# Altium schematic symbol library Schematic_Library.SchLib: 42 symbols
Pins are listed as number, name and electrical type; pins without a type are passive.

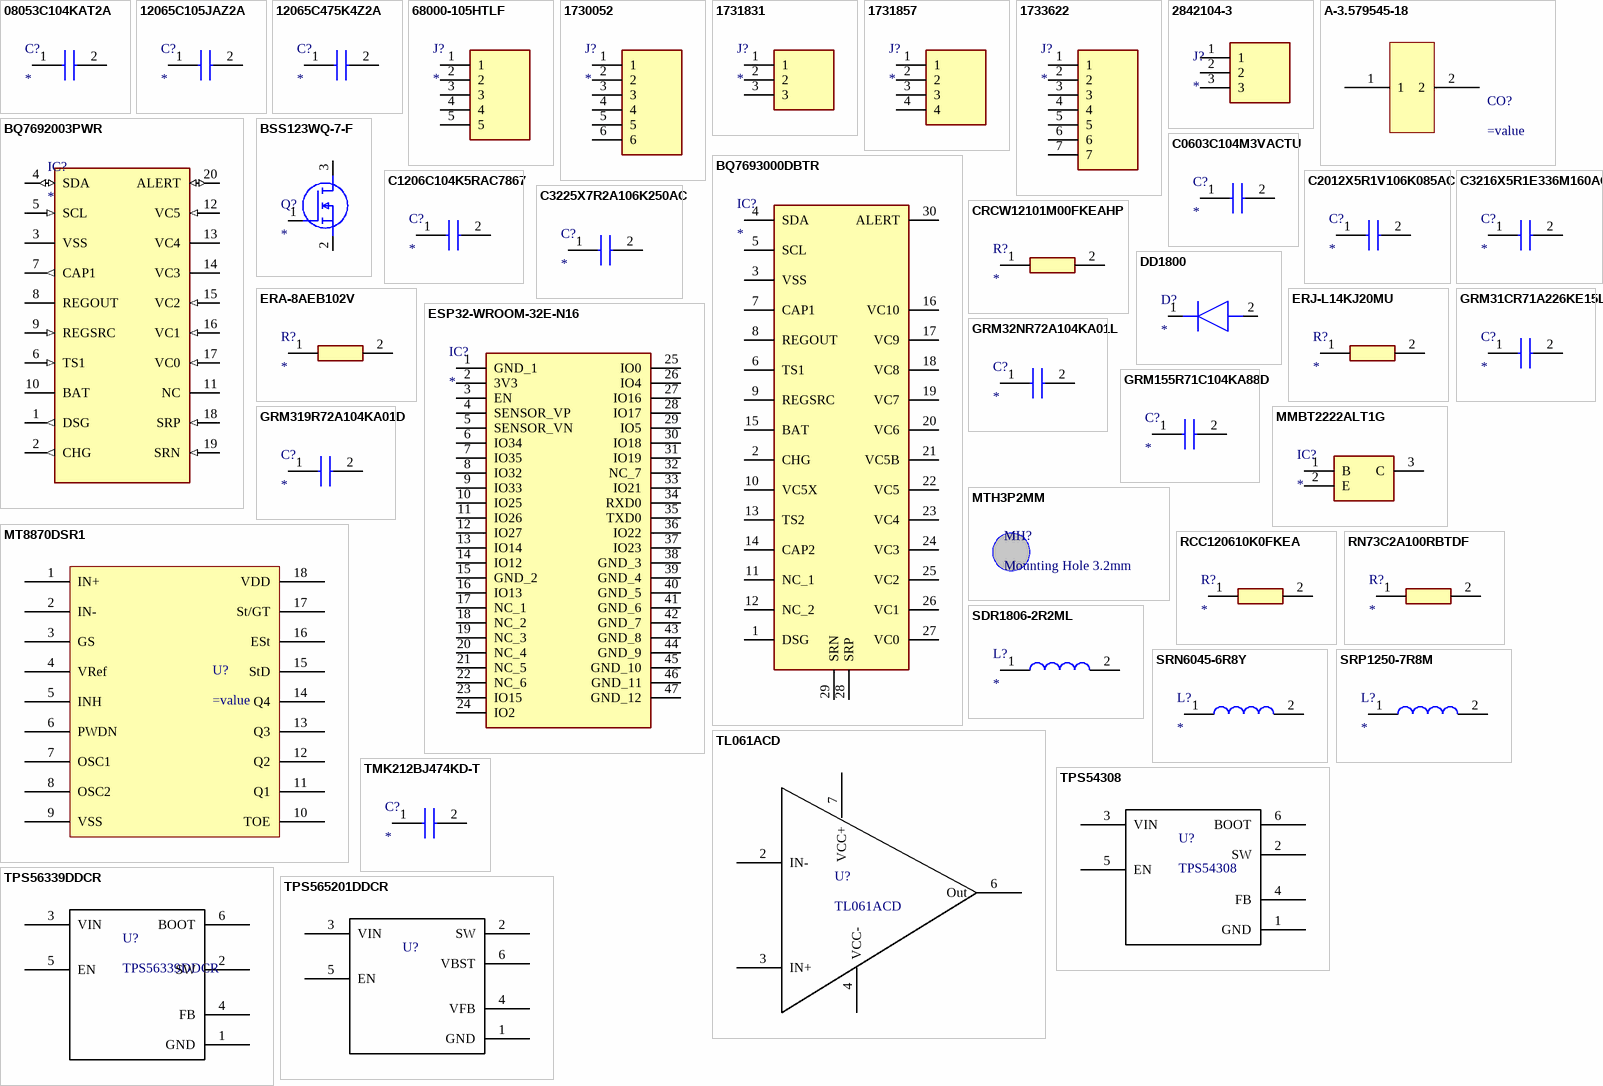
[diagram p0: symbols 08053C104KAT2A to TPS565201DDCR]

## 08053C104KAT2A
designator C?
Capacitor; Manufacturer_Name: Kyocera AVX; Manufacturer_Part_Number: 08053C104KAT2A; Datasheet Link: http://datasheets.avx.com/X7RDielectric.pdf; Height: 0.94mm; Mouser Part Number: 581-08053C104K; Mouser Price/Stock: https://www.mouser.co.uk/ProductDetail/KYOCERA-AVX/08053C104KAT2A?qs=EihRZLdKnF2GcTBzDkE%2FiQ%3D%3D; Arrow Part Number: 08053C104KAT2A; Arrow Price/Stock: https://www.arrow.com/en/products/08053c104kat2a/avx?region=nac
footprint 08053C104KAT2A
pins: 1, 2

## 12065C105JAZ2A
designator C?
Capacitor; Manufacturer_Name: Kyocera AVX; Manufacturer_Part_Number: 12065C105JAZ2A; Datasheet Link: http://www.farnell.com/datasheets/2237835.pdf; Height: 1.78mm; Mouser Part Number: 581-12065C105JAZ2A; Mouser Price/Stock: https://www.mouser.com/Search/Refine.aspx?Keyword=581-12065C105JAZ2A; Arrow Part Number: 12065C105JAZ2A; Arrow Price/Stock: https://www.arrow.com/en/products/12065c105jaz2a/avx
footprint 12065C105JAZ2A
pins: 1, 2

## 12065C475K4Z2A
designator C?
Capacitor; Manufacturer_Name: Kyocera AVX; Manufacturer_Part_Number: 12065C475K4Z2A; Datasheet Link: https://spicat.kyocera-avx.com/product/mlcc/chartview/12065C475K4Z2A/DataSheet/X7R; Height: 1.78mm; Mouser Part Number: 581-12065C475K4Z2A; Mouser Price/Stock: https://www.mouser.co.uk/ProductDetail/KYOCERA-AVX/12065C475K4Z2A?qs=AQlKX63v8RvvrmQFAjsYkg%3D%3D
footprint 12065C475K4Z2A
pins: 1, 2

## 68000-105HTLF
designator J?
Connector; Manufacturer_Name: Amphenol Communications Solutions; Manufacturer_Part_Number: 68000-105HTLF; Datasheet Link: https://cdn.amphenol-cs.com/media/wysiwyg/files/drawing/68000.pdf; Height: 8.58mm; Mouser Part Number: 649-68000-105HTLF; Mouser Price/Stock: https://www.mouser.co.uk/ProductDetail/Amphenol-FCI/68000-105HTLF?qs=w%2Fv1CP2dgqrYgNyQVoiqDw%3D%3D; Arrow Part Number: 68000-105HTLF; Arrow Price/Stock: https://www.arrow.com/en/products/68000-105htlf/amphenol-fci
footprint 68000-105HTLF
pins: 1, 2, 3, 4, 5

## 1730052
designator J?
Connector; Manufacturer_Name: Phoenix Contact; Manufacturer_Part_Number: 1730052; Datasheet Link: http://www.phoenixcontact.com/de/produkte/1730052/pdf; Height: 13.8mm; Mouser Part Number: 651-1730052; Mouser Price/Stock: https://www.mouser.co.uk/ProductDetail/Phoenix-Contact/1730052?qs=5SfROSHwb7BgX0aXGqhyYw%3D%3D; Arrow Part Number: 1730052; Arrow Price/Stock: https://www.arrow.com/en/products/1730052/phoenix-contact
footprint 1730052
pins: 1, 2, 3, 4, 5, 6

## 1731831
designator J?
Connector; Manufacturer_Name: Phoenix Contact; Manufacturer_Part_Number: 1731831; Datasheet Link: https://datasheet.datasheetarchive.com/originals/distributors/SFDatasheet-2/sf-00050906.pdf; Height: 19.1mm; Mouser Part Number: 651-1731831; Mouser Price/Stock: https://www.mouser.co.uk/ProductDetail/Phoenix-Contact/1731831?qs=o3rrLWFGhRnv%252Ba3%2FC%252B10UQ%3D%3D; Arrow Part Number: 1731831; Arrow Price/Stock: https://www.arrow.com/en/products/1731831/phoenix-contact?utm_currency=USD&region=nac
footprint 1731831
pins: 1, 2, 3

## 1731857
designator J?
Connector; Manufacturer_Name: Phoenix Contact; Manufacturer_Part_Number: 1731857; Datasheet Link: http://www.phoenixcontact.com/de/produkte/1731857/pdf; Height: 19.27mm; Mouser Part Number: 651-1731857; Mouser Price/Stock: https://www.mouser.co.uk/ProductDetail/Phoenix-Contact/1731857?qs=o3rrLWFGhRkCt0JTTi%2FfYg%3D%3D
footprint 1731857
pins: 1, 2, 3, 4

## 1733622
designator J?
Connector; Manufacturer_Name: Phoenix Contact; Manufacturer_Part_Number: 1733622; Datasheet Link: http://www.phoenixcontact.com/de/produkte/1733622/pdf; Height: 15.45mm; Mouser Part Number: 651-1733622; Mouser Price/Stock: https://www.mouser.co.uk/ProductDetail/Phoenix-Contact/1733622?qs=bbdZqDPQhEWeMZBa6Pj3gw%3D%3D; Arrow Part Number: 1733622; Arrow Price/Stock: https://www.arrow.com/en/products/1733622/phoenix-contact?region=nac
footprint 1733622
pins: 1, 2, 3, 4, 5, 6, 7

## 2842104-3
designator J?
Connector; Manufacturer_Name: TE Connectivity; Manufacturer_Part_Number: 2842104-3; Datasheet Link: https://www.te.com/commerce/DocumentDelivery/DDEController?Action=showdoc&DocId=Customer+Drawing%7F2842104%7FA%7Fpdf%7FEnglish%7FENG_CD_2842104_A.pdf%7F2842104-6; Height: 7mm; Mouser Part Number: 571-2842104-3; Mouser Price/Stock: https://www.mouser.co.uk/ProductDetail/TE-Connectivity/2842104-3?qs=Cb2nCFKsA8r9cMKaqp3U1w%3D%3D; Arrow Part Number: 2842104-3; Arrow Price/Stock: https://www.arrow.com/en/products/2842104-3/te-connectivity?region=nac
footprint 28421043
pins: 1, 2, 3

## A-3.579545-18
designator CO?
footprint A-3.579545-18
pins: 1, 2

## BQ7692003PWR
designator IC?
Integrated Circuit; Manufacturer_Name: Texas Instruments; Manufacturer_Part_Number: BQ7692003PWR; Datasheet Link: http://www.ti.com/lit/gpn/bq76920; Height: 1.2mm; Mouser Part Number: 595-BQ7692003PWR; Mouser Price/Stock: https://www.mouser.co.uk/ProductDetail/Texas-Instruments/BQ7692003PWR?qs=%2Fd%252BFzHvH4c1ZYX6sbOSR8w%3D%3D; Arrow Part Number: BQ7692003PWR; Arrow Price/Stock: https://www.arrow.com/en/products/bq7692003pwr/texas-instruments?utm_currency=USD&region=nac
footprint BQ7692003PWR
pins: 1 DSG (out), 2 CHG (out), 3 VSS, 4 SDA (io), 5 SCL (in), 6 TS1 (in), 7 CAP1 (out), 8 REGOUT (power), 9 REGSRC (in), 10 BAT (power), 11 NC, 12 VC5 (in), 13 VC4, 14 VC3, 15 VC2 (in), 16 VC1 (in), 17 VC0 (in), 18 SRP (in), 19 SRN (in), 20 ALERT (io)

## BQ7693000DBTR
designator IC?
Integrated Circuit; Manufacturer_Name: Texas Instruments; Manufacturer_Part_Number: BQ7693000DBTR; Datasheet Link: https://www.arrow.com/en/products/bq7693000dbtr/texas-instruments; Height: 1.2mm; Mouser Part Number: 595-BQ7693000DBTR; Mouser Price/Stock: https://www.mouser.co.uk/ProductDetail/Texas-Instruments/BQ7693000DBTR?qs=%2Fd%252BFzHvH4c0SMleFewu4ww%3D%3D; Arrow Part Number: BQ7693000DBTR; Arrow Price/Stock: https://www.arrow.com/en/products/bq7693000dbtr/texas-instruments?region=europe
footprint BQ7693000DBTR
pins: 1 DSG, 2 CHG, 3 VSS, 4 SDA, 5 SCL, 6 TS1, 7 CAP1, 8 REGOUT, 9 REGSRC, 10 VC5X, 11 NC_1, 12 NC_2, 13 TS2, 14 CAP2, 15 BAT, 16 VC10, 17 VC9, 18 VC8, 19 VC7, 20 VC6, 21 VC5B, 22 VC5, 23 VC4, 24 VC3, 25 VC2, 26 VC1, 27 VC0, 28 SRP, 29 SRN, 30 ALERT

## BSS123WQ-7-F
designator Q?
MOSFET (N-Channel); Manufacturer_Name: Diodes Incorporated; Manufacturer_Part_Number: BSS123WQ-7-F; Datasheet Link: https://www.diodes.com//assets/Datasheets/BSS123WQ.pdf; Height: 1.1mm; Mouser Part Number: 621-BSS123WQ-7-F; Mouser Price/Stock: https://www.mouser.co.uk/ProductDetail/Diodes-Incorporated/BSS123WQ-7-F?qs=GSeC4G%252BEqEX8zUQUKMJ7Eg%3D%3D; Arrow Part Number: BSS123WQ-7-F; Arrow Price/Stock: https://www.arrow.com/en/products/bss123wq-7-f/diodes-incorporated?utm_currency=USD&region=nac
footprint SOT65P210X110-3N
pins: 1 G, 2 S, 3 D

## C0603C104M3VACTU
designator C?
Capacitor; Manufacturer_Name: KEMET; Manufacturer_Part_Number: C0603C104M3VACTU; Datasheet Link: https://content.kemet.com/datasheets/KEM_C1005_Y5V_SMD.pdf; Height: 0.87mm; Mouser Part Number: 80-C0603C104M3V; Mouser Price/Stock: https://www.mouser.co.uk/ProductDetail/KEMET/C0603C104M3VACTU?qs=jZ42y6hXG8l3LKJr7CVpKA%3D%3D; Arrow Part Number: C0603C104M3VACTU; Arrow Price/Stock: https://www.arrow.com/en/products/c0603c104m3vactu/kemet-corporation?region=nac
footprint C0603C104M3VACTU
pins: 1, 2

## C1206C104K5RAC7867
designator C?
Capacitor; Manufacturer_Name: KEMET; Manufacturer_Part_Number: C1206C104K5RAC7867; Datasheet Link: https://content.kemet.com/datasheets/KEM_C1002_X7R_SMD.pdf; Height: 1.1mm; Mouser Part Number: 80-C1206104K5RAC7867; Mouser Price/Stock: https://www.mouser.co.uk/ProductDetail/KEMET/C1206C104K5RAC7867?qs=r%2FVmNO8Tjq5MvP%2FjoJQjcw%3D%3D; Arrow Part Number: C1206C104K5RAC7867; Arrow Price/Stock: https://www.arrow.com/en/products/c1206c104k5rac7867/kemet-corporation
footprint C1206C104K5RAC7867
pins: 1, 2

## C2012X5R1V106K085AC
designator C?
Capacitor; Manufacturer_Name: TDK; Manufacturer_Part_Number: C2012X5R1V106K085AC; Datasheet Link: https://product.tdk.com/system/files/dam/doc/product/capacitor/ceramic/mlcc/catalog/mlcc_commercial_general_en.pdf; Height: 0.75mm; Mouser Part Number: 810-C2012X5R1V106K0C; Mouser Price/Stock: https://www.mouser.co.uk/ProductDetail/TDK/C2012X5R1V106K085AC?qs=6JAMGB%252BEdky%252BlYMcTLhFyA%3D%3D; Arrow Part Number: C2012X5R1V106K085AC; Arrow Price/Stock: https://www.arrow.com/en/products/c2012x5r1v106k085ac/tdk?region=nac
footprint C2012X5R1V106K085AC
pins: 1, 2

## C3216X5R1E336M160AC
designator C?
Capacitor; Manufacturer_Name: TDK; Manufacturer_Part_Number: C3216X5R1E336M160AC; Datasheet Link: https://product.tdk.com/info/en/catalog/datasheets/mlcc_commercial_midvoltage_en.pdf; Height: 1.8mm; Mouser Part Number: 810-C3216X5R1E336M; Mouser Price/Stock: https://www.mouser.co.uk/ProductDetail/TDK/C3216X5R1E336M160AC?qs=LcTL%2F5vFEzFIMvFz4LzwTw%3D%3D; Arrow Part Number: C3216X5R1E336M160AC; Arrow Price/Stock: https://www.arrow.com/en/products/c3216x5r1e336m160ac/tdk
footprint C3216X5R1E336M160AC
pins: 1, 2

## C3225X7R2A106K250AC
designator C?
Capacitor; Manufacturer_Name: TDK; Manufacturer_Part_Number: C3225X7R2A106K250AC; Datasheet Link: https://product.tdk.com/info/en/catalog/datasheets/mlcc_commercial_midvoltage_en.pdf; Height: 2.3mm; Mouser Part Number: 810-C3225X7R2A106K25; Mouser Price/Stock: https://www.mouser.co.uk/ProductDetail/TDK/C3225X7R2A106K250AC?qs=rSMjJ%252B1ewcQNu1nTZev8UA%3D%3D
footprint C3225X7R2A106K250AC
pins: 1, 2

## CRCW12101M00FKEAHP
designator R?
Resistor; Manufacturer_Name: Vishay; Manufacturer_Part_Number: CRCW12101M00FKEAHP; Datasheet Link: http://componentsearchengine.com/Datasheets/1/CRCW12101M00FKEAHP.pdf; Height: 0.7mm; Mouser Part Number: 71-CRCW12101M00FKEAH; Mouser Price/Stock: https://www.mouser.co.uk/ProductDetail/Vishay-Dale/CRCW12101M00FKEAHP?qs=OAzHGkhREL1IfK%252BVtIUJvA%3D%3D; Arrow Part Number: CRCW12101M00FKEAHP; Arrow Price/Stock: https://www.arrow.com/en/products/crcw12101m00fkeahp/vishay?region=nac
footprint CRCW12101M00FKEAHP
pins: 1, 2

## DD1800
designator D?
Diode; Manufacturer_Name: Diotec; Manufacturer_Part_Number: DD1800; Datasheet Link: https://diotec.com/request/datasheet/dd300.pdf; Mouser Part Number: 637-DD1800; Mouser Price/Stock: https://www.mouser.co.uk/ProductDetail/Diotec-Semiconductor/DD1800?qs=OlC7AqGiEDkUOdDC3TSB3g%3D%3D
footprint DIOAD2400W65L1200D300
pins: 1 K, 2 A

## ERA-8AEB102V
designator R?
Resistor; Manufacturer_Name: Panasonic; Manufacturer_Part_Number: ERA-8AEB102V; Datasheet Link: https://industrial.panasonic.com/cdbs/www-data/pdf/RDM0000/AOA0000C307.pdf; Height: 0.7mm; Mouser Part Number: 667-ERA-8AEB102V; Mouser Price/Stock: https://www.mouser.co.uk/ProductDetail/Panasonic/ERA-8AEB102V?qs=Ojoo2rCVP9R3RwZw0XjknA%3D%3D; Arrow Part Number: ERA-8AEB102V; Arrow Price/Stock: https://www.arrow.com/en/products/era-8aeb102v/panasonic?utm_currency=USD&region=nac
footprint ERA-8AEB102V
pins: 1, 2

## ERJ-L14KJ20MU
designator R?
Resistor; Manufacturer_Name: Panasonic; Manufacturer_Part_Number: ERJ-L14KJ20MU; Datasheet Link: http://industrial.panasonic.com/cdbs/www-data/pdf/RDN0000/AOA0000C313.pdf; Height: 0.7mm
footprint ERJ-L14KJ20MU
pins: 1, 2

## ESP32-WROOM-32E-N16
designator IC?
Integrated Circuit; Manufacturer_Name: Espressif Systems; Manufacturer_Part_Number: ESP32-WROOM-32E-N16; Datasheet Link: https://www.espressif.com/sites/default/files/documentation/esp32-wroom-32e_esp32-wroom-32ue_datasheet_en.pdf; Height: 3.25mm; Mouser Part Number: 356-ESP32WRM32E128PH; Mouser Price/Stock: https://www.mouser.co.uk/ProductDetail/Espressif-Systems/ESP32-WROOM-32E-N16?qs=Li%252BoUPsLEnsC4cA%252BUYB2Bw%3D%3D
footprint ESP32WROOM32EN16
pins: 1 GND_1, 2 3V3, 3 EN, 4 SENSOR_VP, 5 SENSOR_VN, 6 IO34, 7 IO35, 8 IO32, 9 IO33, 10 IO25, 11 IO26, 12 IO27, 13 IO14, 14 IO12, 15 GND_2, 16 IO13, 17 NC_1, 18 NC_2, 19 NC_3, 20 NC_4, 21 NC_5, 22 NC_6, 23 IO15, 24 IO2, 25 IO0, 26 IO4, 27 IO16, 28 IO17, 29 IO5, 30 IO18, 31 IO19, 32 NC_7, 33 IO21, 34 RXD0, 35 TXD0, 36 IO22, 37 IO23, 38 GND_3, 39 GND_4, 40 GND_5, 41 GND_6, 42 GND_7, 43 GND_8, 44 GND_9, 45 GND_10, 46 GND_11, 47 GND_12

## GRM31CR71A226KE15L
designator C?
Capacitor; Manufacturer_Name: Murata Electronics; Manufacturer_Part_Number: GRM31CR71A226KE15L; Datasheet Link: https://search.murata.co.jp/Ceramy/image/img/A01X/G101/ENG/GRM31CR71A226KE15-01CA.pdf; Height: 1.15mm; Mouser Part Number: 81-GRM31CR71A226K15L; Mouser Price/Stock: https://www.mouser.co.uk/ProductDetail/Murata-Electronics/GRM31CR71A226KE15L?qs=%2FBLjsTEvPnhfnPGA5Hlk4g%3D%3D; Arrow Part Number: GRM31CR71A226KE15L; Arrow Price/Stock: https://www.arrow.com/en/products/grm31cr71a226ke15l/murata-manufacturing?region=nac
footprint GRM31CR71A226KE15L
pins: 1, 2

## GRM32NR72A104KA01L
designator C?
Capacitor; Manufacturer_Name: Murata Electronics; Manufacturer_Part_Number: GRM32NR72A104KA01L; Datasheet Link: https://datasheet.datasheetarchive.com/originals/distributors/Datasheets_SAMA/a501be5d702e77636af0066a8ea8a825.pdf; Height: 1.5mm; Mouser Part Number: 81-GRM422X104K100L; Mouser Price/Stock: https://www.mouser.co.uk/ProductDetail/Murata-Electronics/GRM32NR72A104KA01L?qs=k8CGH%2FeYcNJZjvEBKBbW2g%3D%3D; Arrow Part Number: GRM32NR72A104KA01L; Arrow Price/Stock: https://www.arrow.com/en/products/grm32nr72a104ka01l/murata-manufacturing
footprint GRM319R72A104KA01D
pins: 1, 2

## GRM155R71C104KA88D
designator C?
Capacitor; Manufacturer_Name: Murata Electronics; Manufacturer_Part_Number: GRM155R71C104KA88D; Datasheet Link: http://www.murata.com/~/media/webrenewal/support/library/catalog/products/capacitor/mlcc/c02e.pdf; Height: 0.55mm; Mouser Part Number: N/A; Arrow Part Number: GRM155R71C104KA88D; Arrow Price/Stock: https://www.arrow.com/en/products/grm155r71c104ka88d/murata-manufacturing?region=nac
footprint GRM155R71C104KA88D
pins: 1, 2

## GRM319R72A104KA01D
designator C?
Capacitor; Manufacturer_Name: Murata Electronics; Manufacturer_Part_Number: GRM319R72A104KA01D; Datasheet Link: http://www.murata.com/~/media/webrenewal/support/library/catalog/products/capacitor/mlcc/c02e.pdf; Height: 0.95mm; Mouser Part Number: 81-GRM319R72A104KA1D; Mouser Price/Stock: https://www.mouser.co.uk/ProductDetail/Murata-Electronics/GRM319R72A104KA01D?qs=aHh07ZX1ACw840PhdyBNvA%3D%3D; Arrow Part Number: GRM319R72A104KA01D; Arrow Price/Stock: https://www.arrow.com/en/products/grm319r72a104ka01d/murata-manufacturing?region=europe
footprint GRM319R72A104KA01D
pins: 1, 2

## MMBT2222ALT1G
designator IC?
Integrated Circuit; Manufacturer_Name: onsemi; Manufacturer_Part_Number: MMBT2222ALT1G; Datasheet Link: https://www.onsemi.com/pub/Collateral/MMBT2222LT1-D.PDF; Height: 1.11mm; Mouser Part Number: 863-MMBT2222ALT1G; Mouser Price/Stock: https://www.mouser.co.uk/ProductDetail/onsemi/MMBT2222ALT1G?qs=HVbQlW5zcXWwnD7Jokybqg%3D%3D; Arrow Part Number: MMBT2222ALT1G; Arrow Price/Stock: https://www.arrow.com/en/products/mmbt2222alt1g/on-semiconductor?utm_currency=USD&region=europe
footprint MMBT2222ALT1G
pins: 1 B, 2 E, 3 C

## MT8870DSR1
designator U?
footprint MT8870DSR1
pins: 1 IN+, 2 IN-, 3 GS, 4 VRef, 5 INH, 6 PWDN, 7 OSC1, 8 OSC2, 9 VSS, 10 TOE, 11 Q1, 12 Q2, 13 Q3, 14 Q4, 15 StD, 16 ESt, 17 St/GT, 18 VDD

## MTH3P2MM
designator MH?, comment Mounting Hole 3.2mm
Through Hole 3.2mm drill hole
footprint MTH3P2MM

## RCC120610K0FKEA
designator R?
Resistor; Manufacturer_Name: Vishay; Manufacturer_Part_Number: RCC120610K0FKEA; Datasheet Link: https://www.vishay.com/docs/20066/rcce3.pdf; Height: 0.6mm; Mouser Part Number: 71-RCC120610K0FKEA; Mouser Price/Stock: https://www.mouser.co.uk/ProductDetail/Vishay-Dale/RCC120610K0FKEA?qs=IS%252B4QmGtzzoGkT4gqT5LqQ%3D%3D; Arrow Part Number: RCC120610K0FKEA; Arrow Price/Stock: https://www.arrow.com/en/products/rcc120610k0fkea/vishay?region=nac
footprint RCC120610K0FKEA
pins: 1, 2

## RN73C2A100RBTDF
designator R?
Resistor; Manufacturer_Name: TE Connectivity; Manufacturer_Part_Number: RN73C2A100RBTDF; Datasheet Link: https://www.te.com/commerce/DocumentDelivery/DDEController?Action=srchrtrv&DocNm=8-1773459-4_ELEVATOR_ESCALATOR_SOLUTIONS&DocType=Data%20Sheet&DocLang=English&PartCntxt=1676143-2&DocFormat=pdf; Height: 0.65mm; Mouser Part Number: 279-RN73CA-100; Mouser Price/Stock: https://www.mouser.co.uk/ProductDetail/TE-Connectivity-Holsworthy/RN73C2A100RBTDF?qs=4sdEia5Zib5QFwNYOmoLuQ%3D%3D; Arrow Part Number: RN73C2A100RBTDF; Arrow Price/Stock: https://www.arrow.com/en/products/rn73c2a100rbtdf/te-connectivity?region=nac
footprint RN73C2A100RBTDF
pins: 1, 2

## SDR1806-2R2ML
designator L?
Inductor; Manufacturer_Name: Bourns; Manufacturer_Part_Number: SDR1806-2R2ML; Datasheet Link: https://www.bourns.com/docs/Product-Datasheets/SDR1806.pdf; Height: 6.9mm; Mouser Part Number: 652-SDR1806-2R2ML; Mouser Price/Stock: https://www.mouser.co.uk/ProductDetail/Bourns/SDR1806-2R2ML?qs=xrpI9KL%2FXvsM6NNo6hRSNQ%3D%3D; Arrow Part Number: SDR1806-2R2ML; Arrow Price/Stock: https://www.arrow.com/en/products/sdr1806-2r2ml/bourns
footprint SDR1806-2R2ML
pins: 1, 2

## SRN6045-6R8Y
designator L?
Inductor; Manufacturer_Name: Bourns; Manufacturer_Part_Number: SRN6045-6R8Y; Datasheet Link: http://www.bourns.com/docs/Product-Datasheets/SRN6045.pdf; Mouser Part Number: 652-SRN6045-6R8Y; Mouser Price/Stock: https://www.mouser.co.uk/ProductDetail/Bourns/SRN6045-6R8Y?qs=opBjA1TV901hgVnK%252Bmh76Q%3D%3D; Arrow Part Number: SRN6045-6R8Y; Arrow Price/Stock: https://www.arrow.com/en/products/srn6045-6r8y/bourns?region=nac
footprint SRN6045
pins: 1, 2

## SRP1250-7R8M
designator L?
Inductor; Manufacturer_Name: Bourns; Manufacturer_Part_Number: SRP1250-7R8M; Datasheet Link: https://www.bourns.com/docs/Product-Datasheets/SRP1250.pdf; Height: 5.2mm; Mouser Part Number: 652-SRP1250-7R8M; Mouser Price/Stock: https://www.mouser.co.uk/ProductDetail/Bourns/SRP1250-7R8M?qs=P41GyhEsKL6%2Fx3ckwmCxKA%3D%3D; Arrow Part Number: SRP1250-7R8M; Arrow Price/Stock: https://www.arrow.com/en/products/srp1250-7r8m/bourns
footprint SRP1250-7R8M
pins: 1, 2

## TL061ACD
designator U?
footprint TL061ACD
pins: 2 IN-, 3 IN+, 4 VCC-, 6 Out, 7 VCC+

## TMK212BJ474KD-T
designator C?
Capacitor; Manufacturer_Name: TAIYO YUDEN; Manufacturer_Part_Number: TMK212BJ474KD-T; Datasheet Link: https://componentsearchengine.com/Datasheets/2/TMK212BJ474KD-T.pdf; Height: 0.95mm; Mouser Part Number: 963-TMK212BJ474KD-T; Mouser Price/Stock: https://www.mouser.co.uk/ProductDetail/Taiyo-Yuden/TMK212BJ474KD-T/?qs=PzICbMaShUcnyRLJVHq5%252BA%3D%3D
footprint TMK212BJ474KD-T
pins: 1, 2

## TPS54308
designator U?
footprint TPS54308
pins: 1 GND, 2 SW, 3 VIN, 4 FB, 5 EN, 6 BOOT

## TPS56339DDCR
designator U?
footprint TPS56339DDCR
pins: 1 GND, 2 SW, 3 VIN, 4 FB, 5 EN, 6 BOOT

## TPS565201DDCR
designator U?
footprint TPS565201DDCR
pins: 1 GND, 2 SW, 3 VIN, 4 VFB, 5 EN, 6 VBST

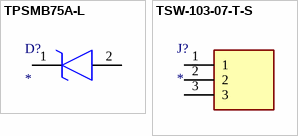
[diagram p1: symbols TPSMB75A-L to TSW-103-07-T-S]

## TPSMB75A-L
designator D?
TVS Diode (Uni-directional); Manufacturer_Name: LITTELFUSE; Manufacturer_Part_Number: TPSMB75A-L; Datasheet Link: https://m.littelfuse.com/media?resourcetype=datasheets&itemid=e7a196a8-a225-4724-ab76-7c22e0d48557&filename=littelfuse-tvs-diode-tpsmb-datasheet; Height: 2.44mm; Mouser Part Number: 576-TPSMB75A-L; Mouser Price/Stock: https://www.mouser.co.uk/ProductDetail/Littelfuse/TPSMB75A-L?qs=%252BXxaIXUDbq2%252B9m5DB0gNVQ%3D%3D
footprint TPSMB75A-L
pins: 1 K, 2 A

## TSW-103-07-T-S
designator J?
Connector; Manufacturer_Name: SAMTEC; Manufacturer_Part_Number: TSW-103-07-T-S; Datasheet Link: http://suddendocs.samtec.com/prints/tsw-xxx-xx-xxx-x-xx-xxx-mkt.pdf; Mouser Part Number: 200-TSW10307TS; Mouser Price/Stock: https://www.mouser.co.uk/ProductDetail/Samtec/TSW-103-07-T-S?qs=hzq9O0YpnZs1xDByQQIs%2FQ%3D%3D; Arrow Part Number: TSW-103-07-T-S; Arrow Price/Stock: https://www.arrow.com/en/products/tsw-103-07-t-s/samtec?region=nac
footprint TSW-103-07-T-S
pins: 1, 2, 3